# Altium footprint library cc98.PcbLib: 54 footprints (part 1 of 4)
Each footprint in its own frame and in the unit in brackets; x right, y up, seen from the top. Pads: shape width x height; smd on the part's side, far side on the other; paste and mask are expansions set on the pad; w line width, h text height; cw(c..) or ccw(c..) is an arc to the next point about the centre after c.
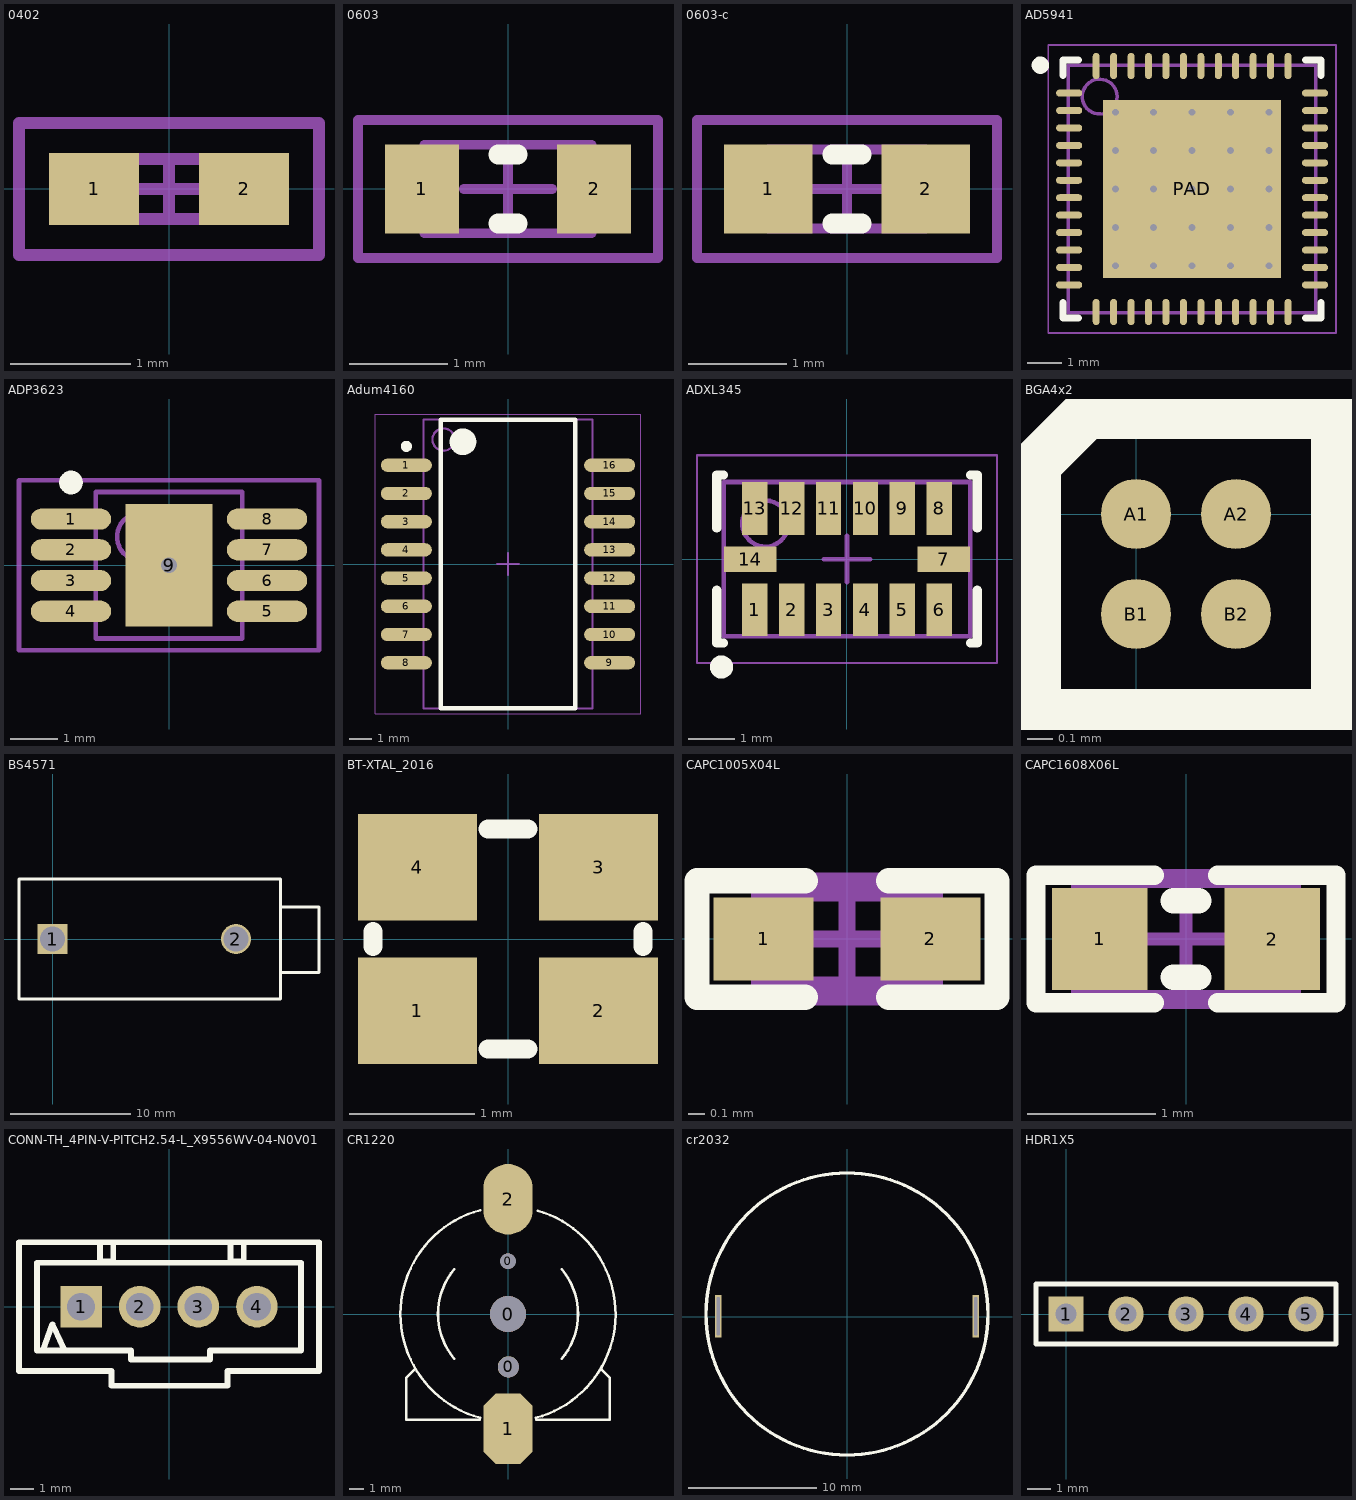
[diagram p0: the footprints below, top view; thin cyan lines are the x and y axes]

## 0402 [mm]
height 0.6
pads (2):
  rect 0.75x0.6 smd: 1(-0.625,0) 2(0.625,0)
Mechanical 13:
  lines w0.1: -0.5,-0.25 -0.5,0.25 0.5,0.25 0.5,-0.25 -0.5,-0.25
Mechanical 15:
  lines w0.1: -0.25,0 0.25,0 ; 0,-0.25 0,0.25 ; -1.25,-0.55 -1.25,0.55 1.25,0.55 1.25,-0.55 -1.25,-0.55
3D body: height 0.6, standoff 0, extent -0.5,-0.25 0.5,0.25

## 0603 [mm]
height 0.6
pads (2):
  rect 0.75x0.9 smd: 1(-0.875,0) 2(0.875,0)
Top Overlay:
  lines w0.2: -0.1,-0.35 0.1,-0.35 ; -0.1,0.35 0.1,0.35
Mechanical 13:
  lines w0.1: -0.85,-0.45 0.85,-0.45 0.85,0.45 -0.85,0.45 -0.85,-0.45
Mechanical 15:
  lines w0.1: -0.45,0 0.45,0 ; 0,-0.45 0,0.45 ; -1.525,-0.7 1.525,-0.7 1.525,0.7 -1.525,0.7 -1.525,-0.7
3D body: height 0.6, standoff 0, extent -0.85,-0.45 0.85,0.45

## 0603-c [mm]
height 0.6
pads (2):
  rect 0.9x0.9 smd: 1(-0.8,0) 2(0.8,0)
Top Overlay:
  lines w0.2: -0.15,-0.35 0.15,-0.35 ; -0.15,0.35 0.15,0.35
Mechanical 13:
  lines w0.1: -0.8,-0.4 0.8,-0.4 0.8,0.4 -0.8,0.4 -0.8,-0.4
Mechanical 15:
  lines w0.1: -0.4,0 0.4,0 ; 0,-0.4 0,0.4 ; -1.525,-0.7 1.525,-0.7 1.525,0.7 -1.525,0.7 -1.525,-0.7
3D body: height 0.6, standoff 0, extent -0.8,-0.4 0.8,0.4

## AD5941 [mm] "QFN, 48-Leads, Body 7.00x7.00mm, Pitch 0.50mm, Thermal Pad 5.10x5.10mm, IPC Medium Density"
height 0.8
pads (49):
  oval 0.75x0.2 smd: 1(-39.72,-11.982) 2(-39.72,-12.482) 3(-39.72,-12.982) 4(-39.72,-13.482) 5(-39.72,-13.982) 6(-39.72,-14.482) 7(-39.72,-14.982) 8(-39.72,-15.482) 9(-39.72,-15.982) 10(-39.72,-16.482) 11(-39.72,-16.982) 12(-39.72,-17.482) 25(-32.67,-17.482) 26(-32.67,-16.982) 27(-32.67,-16.482) 28(-32.67,-15.982) 29(-32.67,-15.482) 30(-32.67,-14.982) 31(-32.67,-14.482) 32(-32.67,-13.982) 33(-32.67,-13.482) 34(-32.67,-12.982) 35(-32.67,-12.482) 36(-32.67,-11.982)
  oval 0.2x0.75 smd: 13(-38.945,-18.257) 14(-38.445,-18.257) 15(-37.945,-18.257) 16(-37.445,-18.257) 17(-36.945,-18.257) 18(-36.445,-18.257) 19(-35.945,-18.257) 20(-35.445,-18.257) 21(-34.945,-18.257) 22(-34.445,-18.257) 23(-33.945,-18.257) 24(-33.445,-18.257) 37(-33.445,-11.207) 38(-33.945,-11.207) 39(-34.445,-11.207) 40(-34.945,-11.207) 41(-35.445,-11.207) 42(-35.945,-11.207) 43(-36.445,-11.207) 44(-36.945,-11.207) 45(-37.445,-11.207) 46(-37.945,-11.207) 47(-38.445,-11.207) 48(-38.945,-11.207)
  rect 5.1x5.1 smd: PAD(-36.195,-14.732)
via -38.395,-12.532 diameter 0.5 hole 0.2
via -37.295,-12.532 diameter 0.5 hole 0.2
via -36.195,-12.532 diameter 0.5 hole 0.2
via -35.095,-12.532 diameter 0.5 hole 0.2
via -33.995,-12.532 diameter 0.5 hole 0.2
via -38.395,-13.632 diameter 0.5 hole 0.2
via -37.295,-13.632 diameter 0.5 hole 0.2
via -36.195,-13.632 diameter 0.5 hole 0.2
via -35.095,-13.632 diameter 0.5 hole 0.2
via -33.995,-13.632 diameter 0.5 hole 0.2
via -38.395,-14.732 diameter 0.5 hole 0.2
via -37.295,-14.732 diameter 0.5 hole 0.2
via -36.195,-14.732 diameter 0.5 hole 0.2
via -35.095,-14.732 diameter 0.5 hole 0.2
via -33.995,-14.732 diameter 0.5 hole 0.2
via -38.395,-15.832 diameter 0.5 hole 0.2
via -37.295,-15.832 diameter 0.5 hole 0.2
via -36.195,-15.832 diameter 0.5 hole 0.2
via -35.095,-15.832 diameter 0.5 hole 0.2
via -33.995,-15.832 diameter 0.5 hole 0.2
via -38.395,-16.932 diameter 0.5 hole 0.2
via -37.295,-16.932 diameter 0.5 hole 0.2
via -36.195,-16.932 diameter 0.5 hole 0.2
via -35.095,-16.932 diameter 0.5 hole 0.2
via -33.995,-16.932 diameter 0.5 hole 0.2
Top Overlay:
  circle w0.25: c-40.545,-11.182 r0.125
  lines w0.2: -39.895,-17.982 -39.895,-18.432 -39.445,-18.432 ; -39.895,-11.482 -39.895,-11.032 -39.445,-11.032 ; -32.945,-18.432 -32.495,-18.432 -32.495,-17.982 ; -32.945,-11.032 -32.495,-11.032 -32.495,-11.482
Mechanical 13:
  circle w0.1: c-38.845,-12.082 r0.5
  lines w0.1: -39.745,-18.282 -39.745,-11.182 -32.645,-11.182 -32.645,-18.282 -39.745,-18.282
Mechanical 15:
  lines w0.05: -40.32,-18.857 -40.32,-10.607 -32.07,-10.607 -32.07,-18.857 -40.32,-18.857
  lines w0.1: -36.695,-14.732 -35.695,-14.732 ; -36.195,-15.232 -36.195,-14.232
3D body: height 0.8, standoff 0.01, extent -39.745,-18.282 -32.645,-11.182

## ADP3623 [mm] "TSOP, 8-Leads, Body 3.1x3.1mm (max), Pitch 0.65mm, IPC Medium Density"
height 1.1
pads (9):
  oval 1.7x0.45 smd: 1(-2.075,0.975) 2(-2.075,0.325) 3(-2.075,-0.325) 4(-2.075,-0.975) 5(2.075,-0.975) 6(2.075,-0.325) 7(2.075,0.325) 8(2.075,0.975)
  rect 1.85x2.6 smd: 9(0,0)
via 0,0 diameter 0.66 hole 0.33
Top Overlay:
  circle w0.25: c-2.075,1.75 r0.125
Mechanical 13:
  circle w0.1: c-0.6,0.6 r0.5
  lines w0.1: -1.55,-1.55 1.55,-1.55 1.55,1.55 -1.55,1.55 -1.55,-1.55
Mechanical 15:
  lines w0.1: -0.5,0 0.5,0 ; 0,-0.5 0,0.5 ; -3.175,-1.8 3.175,-1.8 3.175,1.8 -3.175,1.8 -3.175,-1.8
3D body: height 1.1, standoff 0.1, extent -1.55,-1.55 1.55,1.55

## Adum4160 [mm] "SOIC, 16-Leads, Body 12.80x7.50mm, Pitch 1.27mm, IPC Medium Density"
height 2.65
pads (16):
  oval 2.3x0.6 smd: 1(-4.575,4.445) 2(-4.575,3.175) 3(-4.575,1.905) 4(-4.575,0.635) 5(-4.575,-0.635) 6(-4.575,-1.905) 7(-4.575,-3.175) 8(-4.575,-4.445) 9(4.575,-4.445) 10(4.575,-3.175) 11(4.575,-1.905) 12(4.575,-0.635) 13(4.575,0.635) 14(4.575,1.905) 15(4.575,3.175) 16(4.575,4.445)
Top Overlay:
  circle w0.25: c-4.575,5.295 r0.125
  circle w0.6: c-2.025,5.5 r0.3
  lines w0.2: -3.025,-6.5 -3.025,6.5 3.025,6.5 3.025,-6.5 -3.025,-6.5
Mechanical 13:
  circle w0.1: c-2.9,5.6 r0.5
  lines w0.1: -3.8,-6.5 -3.8,6.5 3.8,6.5 3.8,-6.5 -3.8,-6.5
Mechanical 15:
  lines w0.05: -5.975,-6.75 -5.975,6.75 5.975,6.75 5.975,-6.75 -5.975,-6.75
  lines w0.1: -0.5,0 0.5,0 ; 0,-0.5 0,0.5
3D body: height 2.65, standoff 0.1, extent -3.8,-6.5 3.8,6.5

## ADXL345 [mm] "QFN, 14-Leads, Body 5.34x3.34mm, Pitch 0.80mm, IPC Medium Density"
height 1
pads (14):
  rect 0.55x1.145 smd: 1(-2,-1.097) 2(-1.2,-1.097) 3(-0.4,-1.097) 4(0.4,-1.097) 5(1.2,-1.097) 6(2,-1.097) 8(2,1.098) 9(1.2,1.098) 10(0.4,1.098) 11(-0.4,1.098) 12(-1.2,1.098) 13(-2,1.098)
  rect 1.145x0.55 smd: 7(2.098,0) 14(-2.097,0)
Top Overlay:
  circle w0.25: c-2.718,-2.337 r0.125
  lines w0.2: -2.82,-0.675 -2.82,-1.82 -2.675,-1.82 ; -2.82,0.675 -2.82,1.82 -2.675,1.82 ; 2.675,-1.82 2.82,-1.82 2.82,-0.675 ; 2.675,1.82 2.82,1.82 2.82,0.675
Mechanical 13:
  circle w0.1: c-1.77,0.77 r0.5
  lines w0.1: -2.67,-1.67 2.67,-1.67 2.67,1.67 -2.67,1.67 -2.67,-1.67
Mechanical 15:
  lines w0.05: -3.25,-2.25 3.25,-2.25 3.25,2.25 -3.25,2.25 -3.25,-2.25
  lines w0.1: -0.5,0 0.5,0 ; 0,-0.5 0,0.5
3D body: height 1, standoff 0.01, extent -2.67,-1.67 2.67,1.67

## BGA4x2 [mm]
pads (4):
  round 0.28 smd: A1(0,0) A2(0.4,0) B1(0,-0.4) B2(0.4,-0.4)
Top Overlay:
  lines w0.2: -0.4,-0.8 -0.4,0.2 -0.2,0.4 0.8,0.4 0.8,-0.8 -0.4,-0.8

## BS4571 [mm]
height 4.45
pads (2):
  rect 2.5x2.5 hole 2.1: 1(0,0)
  round 2.5 hole 2.1: 2(15.3,0)
Top Overlay:
  lines w0.254: 19,-2.794 22.225,-2.794 22.225,2.667 19,2.667 ; -2.794,-5 -2.794,5 19,5 19,-5 -2.794,-5

## BT-XTAL_2016 [mm]
pads (4):
  rect 0.95x0.85 smd: 1(-0.725,-0.575) 2(0.725,-0.575) 3(0.725,0.575) 4(-0.725,0.575)
Top Overlay:
  lines w0.152: -1.08,-0.06 -1.08,0.06 ; -0.16,-0.88 0.16,-0.88 ; -0.16,0.88 0.16,0.88 ; 1.08,-0.06 1.08,0.06

## CAPC1005X04L [mm]
pads (2):
  rect 0.6x0.5 smd: 1(-0.5,0) 2(0.5,0)
Top Overlay:
  lines w0.152: -0.25,-0.35 -0.9,-0.35 -0.9,0.35 -0.25,0.35 ; 0.25,-0.35 0.9,-0.35 0.9,0.35 0.25,0.35
Mechanical 13:
  lines w0.1: -0.525,-0.275 -0.525,0.275 0.525,0.275 0.525,-0.275 -0.525,-0.275
Mechanical 15:
  lines w0.1: -0.275,0 0.275,0 ; 0,-0.275 0,0.275 ; -0.9,-0.35 0.9,-0.35 0.9,0.35 -0.9,0.35 -0.9,-0.35
3D body "User Library-0402(1005M) Cap.step": height 0.5, standoff -0.01, extent -0.508,-0.254 0.508,0.254

## CAPC1608X06L [mm]
pads (2):
  rect 0.75x0.8 smd: 1(-0.675,0) 2(0.675,0)
Top Overlay:
  lines w0.152: -0.25,-0.5 -1.175,-0.5 -1.175,0.5 -0.25,0.5 ; 0.25,-0.5 1.175,-0.5 1.175,0.5 0.25,0.5
  lines w0.2: -0.1,-0.3 0.1,-0.3 ; -0.1,0.3 0.1,0.3
Mechanical 13:
  lines w0.1: -0.85,-0.45 0.85,-0.45 0.85,0.45 -0.85,0.45 -0.85,-0.45
Mechanical 15:
  lines w0.1: -0.45,0 0.45,0 ; 0,-0.45 0,0.45 ; -1.175,-0.5 -1.175,0.5 1.175,0.5 1.175,-0.5 -1.175,-0.5
3D body "User Library-Chip Capacitor 0603.step": height 0.8, standoff 0, extent -0.8,-0.43 0.8,0.43

## CONN-TH_4PIN-V-PITCH2.54-L_X9556WV-04-N0V01 [mm]
pads (4):
  rect 1.8x1.8 hole 1.2: 1(-3.81,0)
  round 1.8 hole 1.2: 2(-1.27,0) 3(1.27,0) 4(3.81,0)
Top Overlay:
  lines w0.254: -5.461,-1.905 -5.051,-0.762 -4.52,-1.905 ; 2.54,-1.905 5.715,-1.905 5.715,1.905 -5.715,1.905 -5.715,-1.905 -2.5,-1.905 -1.651,-1.905 -1.651,-2.286 1.778,-2.286 1.778,-1.905 2.674,-1.905 ; -6.5,-2.794 -6.5,2.794 6.5,2.794 6.5,-2.794 2.54,-2.794 2.54,-3.429 -2.485,-3.429 -2.485,-2.794 -6.5,-2.794 ; -2.984,1.968 -2.413,1.968 -2.413,2.794 -2.984,2.794 -2.984,1.968 ; 2.667,1.968 3.238,1.968 3.238,2.794 2.667,2.794 2.667,1.968

## CR1220 [mm] "钮扣电池"
height 3
pads (5):
  round 2.54 hole 2.54: 0(0,0)
  round 1.1 hole 1.1: 0(0,3.75)
  round 1.5 hole 1.5: 0(0.025,-3.75)
  oct 3.5x5 smd: 1(0,-8.128)
  oval 3.5x5 smd: 2(0,8.128)
Top Overlay:
  lines w0.178: -6.6,-3.9 -7.2,-4.5 -7.2,-7.5 -2,-7.5 ; -3.815,-3.169 cw(c0,0) -3.812,3.172 ; -1.963,-7.363 cw(c0,0) -7.62,0 cw(c0,0) -1.963,7.363 ; 1.963,-7.363 ccw(c0,0) 2.093,7.327 ; 2,-7.5 7.2,-7.5 7.2,-4.5 6.625,-3.925 ; 3.81,-3.175 ccw(c0,0) 3.812,3.172

## cr2032 [mm]
pads (2):
  rect 0.5x3.3 hole 0.25 slot 3 at 90 deg: 1(-10.075,0.025) 2(10.025,0.025)
Top Overlay:
  circle w0.254: c-0.025,0.2 r11
3D body "SW3DPS-BATT CR2032-DEFAULT.STEP": height 3.2, standoff 0, extent -10.152,-10.152 9.848,9.848

## HDR1X5 [mm] "Connector; Header; 5 Position"
height 9.6
pads (5):
  rect 1.5x1.5 hole 0.9: 1(0,0)
  round 1.5 hole 0.9: 2(2.54,0) 3(5.08,0) 4(7.62,0) 5(10.16,0)
Top Overlay:
  lines w0.2: -1.27,-1.27 -1.27,1.27 11.43,1.27 11.43,-1.27 -1.27,-1.27